# EAGLE library part TC7PZ17FU (library tide_clock)
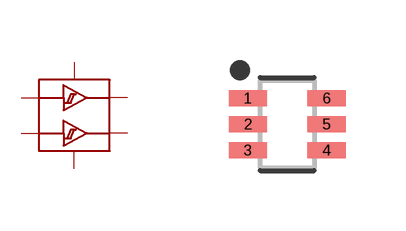
[diagram p11: symbol with the pads of SOP65P210X100-6; footprint SOP65P210X100-6]

Designator prefix U

## TC7PZ17FU  [SOP65P210X100-6]
1  1A
2  GND
3  2A
4  2Y
5  VCC
6  1Y

## Footprint SOP65P210X100-6 (pad centres in mm)
6-SOP, 0.65 mm pitch, 2.10 mm span, 2.00 X 1.25 X 1.00 mm body 6-pin SOP package with 0.65 mm pitch, 2.10 mm span with body size 2.00 X 1.25 X 1.00 mm
smd 0.96 x 0.397: 1 -0.985,0.65; 2 -0.985,0; 3 -0.985,-0.65; 4 0.985,-0.65; 5 0.985,0; 6 0.985,0.65